# EAGLE library part XCL20/5/6/7 (library torex)
TOREX: 1.2V regulator w/ build in inductor
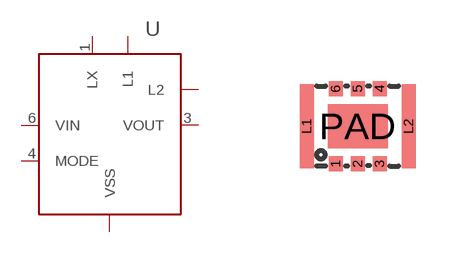
[diagram p0: symbol with the pads of 56-BCPGA; footprint 56-BCPGA]

Designator prefix U

## XCL20/5/6/7XCL206B123 (DIGIKEY: 893-1154-1-ND; VOLT: 1.2V)  [56-BCPGA]
1  LX
2  VSS
3  VOUT
4  MODE
5  VSS
6  VIN
L1  L1
L2  L2
PAD  VSS

## XCL20/5/6/7XCL206B333 (DIGIKEY: 893-1161-1-ND; VOLT: 3.3V)  [56-BCPGA]
Pads as for 56-BCPGA

## Footprint 56-BCPGA (pad centres in mm)
smd 0.35 x 0.375: 1 -0.55,-0.938; 2 0,-0.938; 3 0.55,-0.938; 4 0.55,0.938; 5 0,0.938; 6 -0.55,0.938
smd 0.35 x 2.1: L1 -1.275,0; L2 1.275,0
smd 1.5 x 1.1: PAD 0,0